# Altium footprint library Capacitor.PcbLib: 24 footprints (part 1 of 2)
Each footprint in its own frame and in the unit in brackets; x right, y up, seen from the top. Pads: shape width x height; smd on the part's side, far side on the other; paste and mask are expansions set on the pad; w line width, h text height; cw(c..) or ccw(c..) is an arc to the next point about the centre after c.
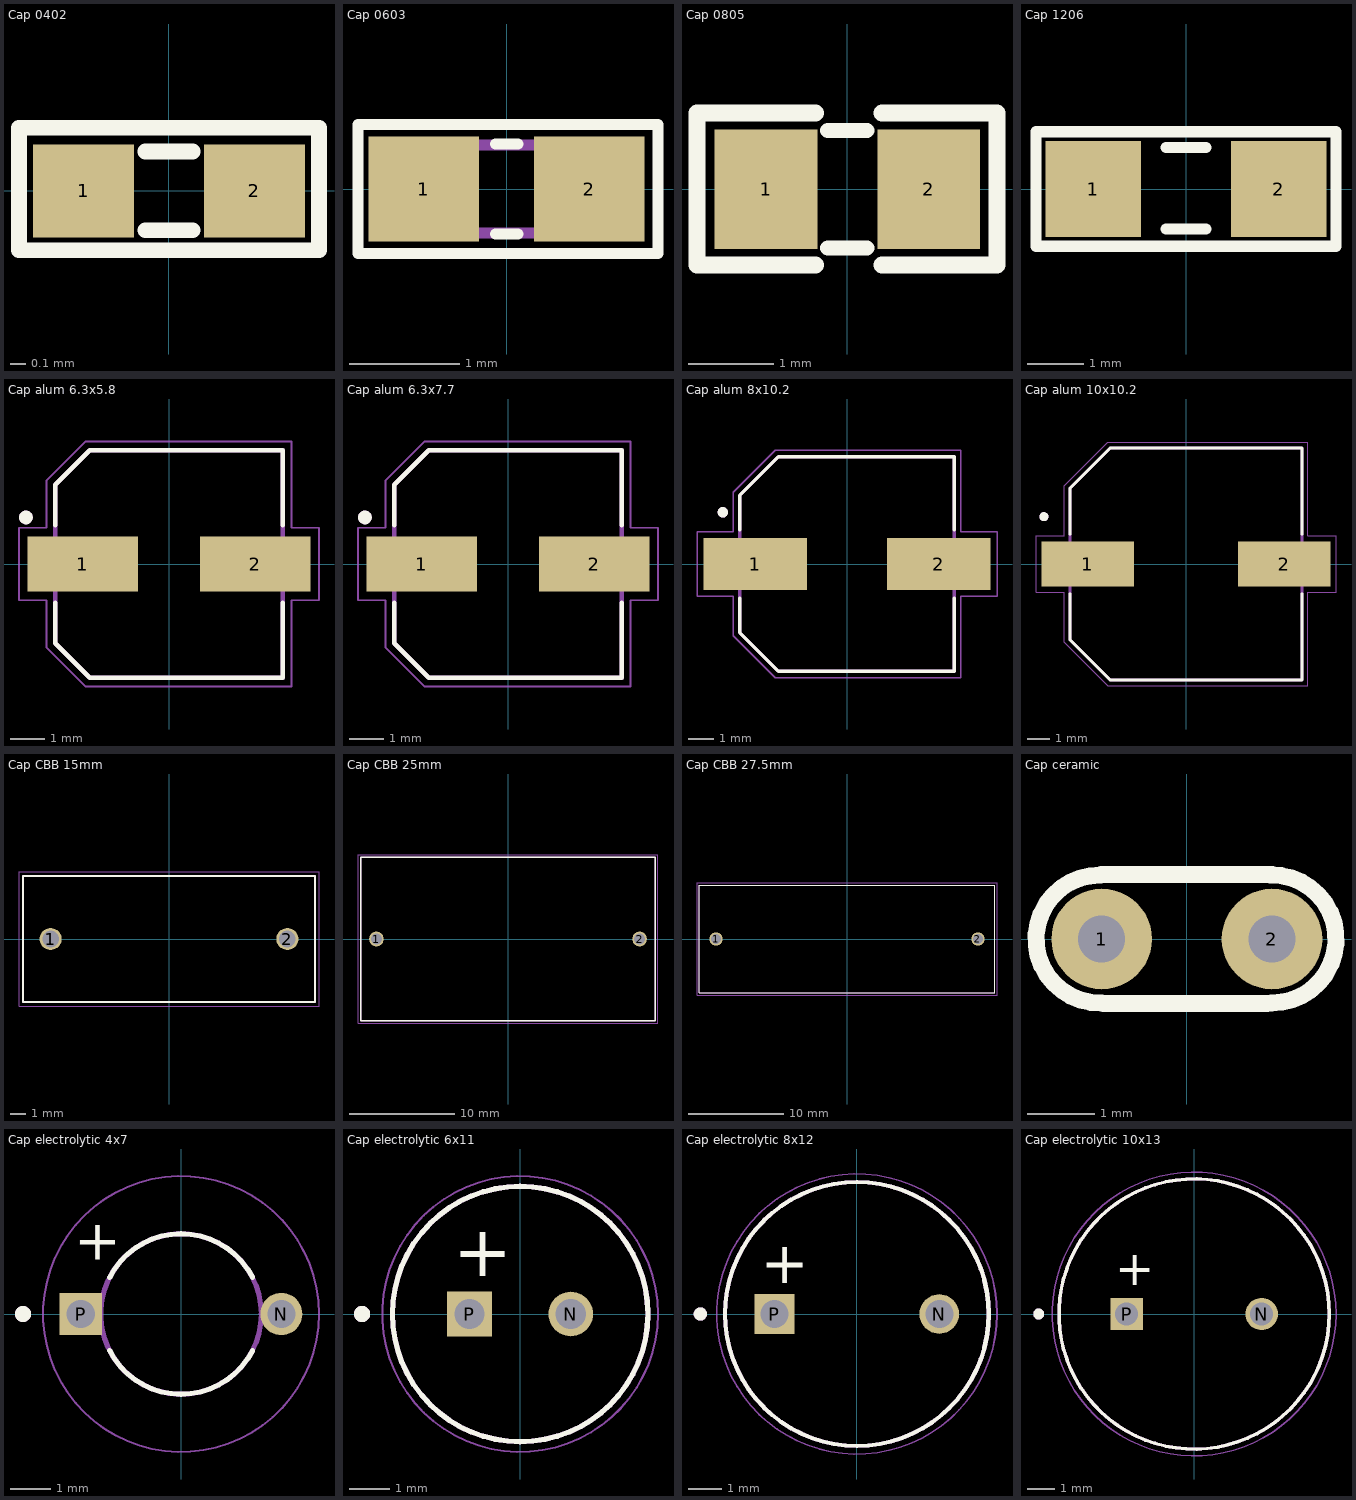
[diagram p0: the footprints below, top view; thin cyan lines are the x and y axes]

## Cap 0402 [mm]
pads (2):
  rect 0.65x0.6 smd: 1(-0.55,0) 2(0.55,0)
Top Overlay:
  lines w0.1: -0.152,-0.254 0.152,-0.254 ; -0.152,0.254 0.152,0.254 ; -0.965,-0.381 -0.965,0.406 0.965,0.406 0.965,-0.381 -0.965,-0.381
3D body "capacitor-0402C.step": height 0.35, standoff 0, extent -0.5,-0.265 0.5,0.265

## Cap 0603 [mm]
pads (2):
  rect 1x0.95 smd mask+0.076: 1(-0.75,0) 2(0.75,0)
Top Overlay:
  lines w0.102: -0.102,-0.406 0.102,-0.406 ; -0.102,0.406 0.102,0.406 ; -1.346,-0.584 -1.346,0.584 1.372,0.584 1.372,-0.584 -1.346,-0.584
Mechanical 13:
  lines w0.1: -0.8,-0.4 -0.8,0.4 0.8,0.4 0.8,-0.4 -0.8,-0.4
3D body "User Library-CAPC1608X09.step": height 0.9, standoff 0, extent -0.8,-0.4 0.8,0.4

## Cap 0805 [mm]
pads (2):
  rect 1.2x1.4 smd: 1(-0.95,0) 2(0.95,0)
Top Overlay:
  lines w0.178: -0.229,-0.686 0.228,-0.686 ; -0.229,0.686 0.228,0.686
  lines w0.2: -0.371,-0.886 -1.757,-0.886 -1.757,0.892 -0.371,0.892 ; 0.404,-0.886 1.748,-0.886 1.748,0.892 0.404,0.892
3D body "SW3dPS-smt_resistor_packages.STEP": height 0.61, standoff -0.01, extent -1.01,-0.635 1.01,0.635

## Cap 1206 [mm]
pads (2):
  rect 1.7x1.7 smd: 1(-1.65,0) 2(1.65,0)
Top Overlay:
  lines w0.2: -0.356,-0.711 0.356,-0.711 ; -0.356,0.737 0.356,0.737 ; -2.667,-1.016 -2.667,1.016 2.667,1.016 2.667,-0.483 2.667,-1.016 -2.667,-1.016
3D body "capacitor 1206.step": height 0.94, standoff 0, extent -1.575,-0.8 1.625,0.8

## Cap alum 6.3x5.8 [mm]
pads (2):
  rect 3.2x1.6 smd: 1(-2.5,0) 2(2.5,0)
Top Overlay:
  circle w0.2: c-4.15,1.35 r0.1
  lines w0.127: -3.3,-1.12 -3.3,-2.3 -2.3,-3.3 3.3,-3.3 3.3,-1.12 ; -3.3,1.12 -3.3,2.3 -2.3,3.3 3.3,3.3 3.3,1.12
Mechanical 13:
  circle w0.2: c-4.15,1.35 r0.1
  lines w0.127: -3.3,-2.3 -3.3,2.3 -2.3,3.3 3.3,3.3 3.3,-3.3 -2.3,-3.3 -3.3,-2.3
Mechanical 15:
  lines w0.05: -4.35,-1.05 -3.55,-1.05 -3.55,-2.425 -2.425,-3.55 3.55,-3.55 3.55,-1.05 4.35,-1.05 4.35,1.05 3.55,1.05 3.55,3.55 -2.425,3.55 -3.55,2.425 -3.55,1.05 -4.35,1.05 -4.35,-1.05
3D body "step_temp.STEP": height 5.8, standoff 0, extent -3.65,-3.3 3.65,3.3

## Cap alum 6.3x7.7 [mm]
pads (2):
  rect 3.2x1.6 smd: 1(-2.5,0) 2(2.5,0)
Top Overlay:
  circle w0.2: c-4.15,1.35 r0.1
  lines w0.127: -3.3,-1.12 -3.3,-2.3 -2.3,-3.3 3.3,-3.3 3.3,-1.12 ; -3.3,1.12 -3.3,2.3 -2.3,3.3 3.3,3.3 3.3,1.12
Mechanical 13:
  circle w0.2: c-4.15,1.35 r0.1
  lines w0.127: -3.3,-2.3 -2.3,-3.3 3.3,-3.3 3.3,3.3 -2.3,3.3 -3.3,2.3 -3.3,-2.3
Mechanical 15:
  lines w0.05: -4.35,-1.05 -4.35,1.05 -3.55,1.05 -3.55,2.425 -2.425,3.55 3.55,3.55 3.55,1.05 4.35,1.05 4.35,-1.05 3.55,-1.05 3.55,-3.55 -2.425,-3.55 -3.55,-2.425 -3.55,-1.05 -4.35,-1.05
3D body "step_temp.STEP": height 7.7, standoff 0, extent -3.65,-3.3 3.65,3.3

## Cap alum 8x10.2 [mm]
pads (2):
  rect 4x2 smd: 1(-3.55,0) 2(3.55,0)
Top Overlay:
  circle w0.2: c-4.8,2 r0.1
  lines w0.127: -4.15,-1.32 -4.15,-2.65 -2.65,-4.15 4.15,-4.15 4.15,-1.32 ; -4.15,1.32 -4.15,2.65 -2.65,4.15 4.15,4.15 4.15,1.32
Mechanical 13:
  circle w0.2: c-4.8,2 r0.1
  lines w0.127: -4.15,-2.65 -2.65,-4.15 4.15,-4.15 4.15,4.15 -2.65,4.15 -4.15,2.65 -4.15,-2.65
Mechanical 15:
  lines w0.05: -5.8,-1.25 -5.8,1.25 -4.4,1.25 -4.4,2.775 -2.775,4.4 4.4,4.4 4.4,1.25 5.8,1.25 5.8,-1.25 4.4,-1.25 4.4,-4.4 -2.775,-4.4 -4.4,-2.775 -4.4,-1.25 -5.8,-1.25
3D body "step_temp.STEP": height 10.2, standoff 0, extent -4.85,-4.15 4.85,4.15

## Cap alum 10x10.2 [mm]
pads (2):
  rect 4.1x2 smd: 1(-4.35,0) 2(4.35,0)
Top Overlay:
  circle w0.2: c-6.3,2.1 r0.1
  lines w0.127: -5.15,-1.32 -5.15,-3.35 -3.35,-5.15 5.15,-5.15 5.15,-1.32 ; -5.15,1.32 -5.15,3.35 -3.35,5.15 5.15,5.15 5.15,1.32
Mechanical 13:
  circle w0.2: c-6.3,2.1 r0.1
  lines w0.127: -5.15,-3.35 -3.35,-5.15 5.15,-5.15 5.15,5.15 -3.35,5.15 -5.15,3.35 -5.15,-3.35
Mechanical 15:
  lines w0.05: -6.65,-1.25 -6.65,1.25 -5.4,1.25 -5.4,3.475 -3.475,5.4 5.4,5.4 5.4,1.25 6.65,1.25 6.65,-1.25 5.4,-1.25 5.4,-5.4 -3.475,-5.4 -5.4,-3.475 -5.4,-1.25 -6.65,-1.25
3D body "step_temp.STEP": height 9.3, standoff -0.9, extent -5.85,-5.15 5.85,5.15

## Cap CBB 15mm [mm]
pads (2):
  round 1.4 hole 1.05: 1(-7.5,0) 2(7.5,0)
Top Overlay:
  lines w0.127: -9.25,-4 -9.25,4 9.25,4 9.25,-4 -9.25,-4
Mechanical 13:
  lines w0.127: -9.25,-4 9.25,-4 9.25,4 -9.25,4 -9.25,-4
Mechanical 15:
  lines w0.05: -9.5,-4.25 9.5,-4.25 9.5,4.25 -9.5,4.25 -9.5,-4.25
3D body "ECQE6184KF.STEP": height 17, standoff -19, extent -9.25,-4 9.25,4

## Cap CBB 25mm [mm]
pads (2):
  round 1.4 hole 1.05: 1(-12.5,0) 2(12.5,0)
Top Overlay:
  lines w0.127: -14,-7.75 14,-7.75 14,7.75 -14,7.75 -14,-7.75
Mechanical 13:
  lines w0.127: -14,-7.75 -14,7.75 14,7.75 14,-7.75 -14,-7.75
Mechanical 15:
  lines w0.05: -14.25,-8 -14.25,8 14.25,8 14.25,-8 -14.25,-8
3D body "ECWF6105JL.STEP": height 23.8, standoff -23.5, extent -14,-7.877 14,7.623

## Cap CBB 27.5mm [mm]
pads (2):
  round 1.4 hole 1.05: 1(-13.75,0) 2(13.75,0)
Top Overlay:
  lines w0.127: -15.5,-5.65 15.5,-5.65 15.5,5.65 -15.5,5.65 -15.5,-5.65
Mechanical 13:
  lines w0.127: -15.5,-5.65 -15.5,5.65 15.5,5.65 15.5,-5.65 -15.5,-5.65
Mechanical 15:
  lines w0.05: -15.75,-5.9 -15.75,5.9 15.75,5.9 15.75,-5.9 -15.75,-5.9
3D body "step_temp.STEP": height 22, standoff -18.5, extent -15.5,-5.65 15.5,5.65

## Cap ceramic [mm]
pads (2):
  round 1.5 hole 0.7: 1(-1.27,0) 2(1.27,0)
Top Overlay:
  lines w0.254: -1.285,0.955 ccw(c-1.295,0) -1.27,-0.954 ; -1.27,0.965 1.27,0.965 ; -1.245,-0.965 1.194,-0.965 ; 1.245,0.954 cw(c1.27,0) 1.259,-0.955
3D body "User Library-Cap 100n.step": height 6.12, standoff -1.8, extent -2.918,-0.848 2.921,0.848

## Cap electrolytic 4x7 [mm]
pads (2):
  round 1.05 hole 0.7: N(2.5,0)
  rect 1.05x1.05 hole 0.7: P(-2.5,0)
Top Overlay:
  circle w0.2: c-3.938,0 r0.1
  lines w0.127: -1.782,-0.908 ccw(c0,0) 1.782,-0.908 ; -1.782,0.908 cw(c0,0) 1.782,0.908
  text "+" at -2.667,1.355 h1.02
Mechanical 13:
  circle w0.2: c-3.938,0 r0.1
  circle w0.127: c0,0 r2
Mechanical 15:
  circle w0.05: c0,0 r3.438
3D body "step_temp.STEP": height 7, standoff -17, extent -2.725,-1.999 2.725,1.999

## Cap electrolytic 6x11 [mm]
pads (2):
  round 1.1 hole 0.75: N(1.25,0)
  rect 1.1x1.1 hole 0.75: P(-1.25,0)
Top Overlay:
  circle w0.127: c0,0 r3.15
  circle w0.2: c-3.9,0 r0.1
  text "+" at -1.651,0.931 h1.27
Mechanical 13:
  circle w0.127: c0,0 r3.15
  circle w0.2: c-3.9,0 r0.1
Mechanical 15:
  circle w0.05: c0,0 r3.4
3D body "step_temp.STEP": height 11.2, standoff -17, extent -3.15,-3.149 3.15,3.149

## Cap electrolytic 8x12 [mm]
pads (2):
  round 1.2 hole 0.85: N(2.5,0)
  rect 1.2x1.2 hole 0.85: P(-2.5,0)
Top Overlay:
  circle w0.127: c0,0 r4
  circle w0.2: c-4.75,0 r0.1
  text "+" at -2.921,0.931 h1.27
Mechanical 13:
  circle w0.127: c0,0 r4
  circle w0.2: c-4.75,0 r0.1
Mechanical 15:
  circle w0.05: c0,0 r4.25
3D body "step_temp.STEP": height 11.5, standoff -17, extent -4,-4 4,4

## Cap electrolytic 10x13 [mm]
pads (2):
  round 1.2 hole 0.85: N(2.5,0)
  rect 1.2x1.2 hole 0.85: P(-2.5,0)
Top Overlay:
  circle w0.127: c0,0 r5
  circle w0.2: c-5.75,0 r0.1
  text "+" at -2.921,1.058 h1.27
Mechanical 13:
  circle w0.127: c0,0 r5
  circle w0.2: c-5.75,0 r0.1
Mechanical 15:
  circle w0.05: c0,0 r5.25
3D body "step_temp.STEP": height 12.5, standoff -17, extent -5,-4.998 5,4.998